# EAGLE library part STPIC6D595 (library arcaduinome)
STPIC6D595 The STMicroelectronics STPIC6D595 is a 74*595-style 8-bit Shift Register with output latches and open-drain DMOS transistor outputs designed for moderate load power (such as LEDs).
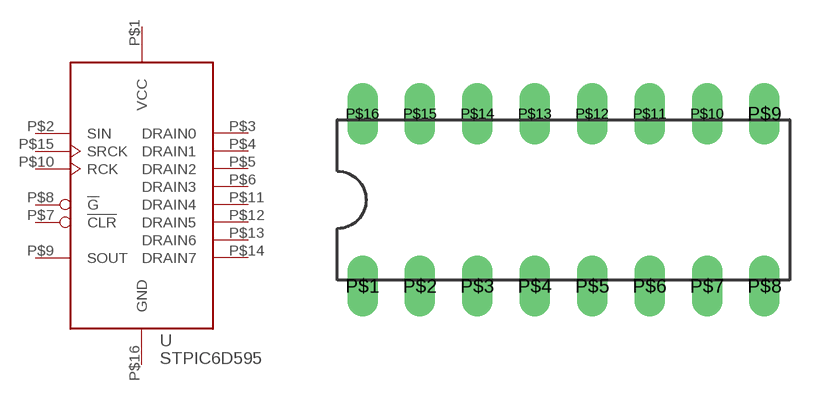
[diagram p1: symbol with the pads of DIP16; footprint DIP16]

Designator prefix -

## STPIC6D595  [DIP16]
P$1  VCC  pwr
P$2  SIN  in
P$3  DRAIN0  oc
P$4  DRAIN1  oc
P$5  DRAIN2  oc
P$6  DRAIN3  oc
P$7  !CLR
P$8  !G
P$9  SOUT  out
P$10  RCK  in
P$11  DRAIN4  oc
P$12  DRAIN5  oc
P$13  DRAIN6  oc
P$14  DRAIN7  oc
P$15  SRCK  in
P$16  GND  pwr

## Footprint DIP16 (pad centres in mm)
DIP-16 A Dual-Inline Package with 16 pins.
drill 0.85 long: P$1 -8.89,-3.81; P$2 -6.35,-3.81; P$3 -3.81,-3.81; P$4 -1.27,-3.81; P$5 1.27,-3.81; P$6 3.81,-3.81; P$7 6.35,-3.81; P$8 8.89,-3.81; P$9 8.89,3.81; P$10 6.35,3.81; P$11 3.81,3.81; P$12 1.27,3.81; P$13 -1.27,3.81; P$14 -3.81,3.81; P$15 -6.35,3.81; P$16 -8.89,3.81